# Altium integrated library BM70BLES1FC2-0B05BA.IntLib: 1 symbol
Pins are listed as number, name and electrical type; pins without a type are passive.

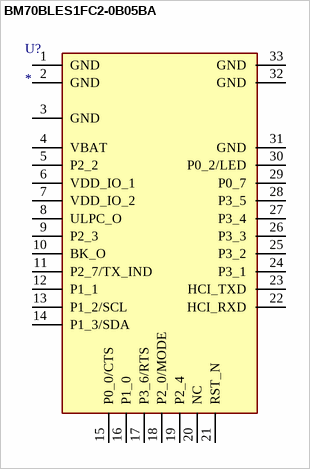
[diagram p0: symbol BM70BLES1FC2-0B05BA]

## BM70BLES1FC2-0B05BA
designator U?
footprint BM70BLES1FC2-0B05BA
pins: 1 GND, 2 GND, 3 GND, 4 VBAT, 5 P2_2, 6 VDD_IO_1, 7 VDD_IO_2, 8 ULPC_O, 9 P2_3, 10 BK_O, 11 P2_7/TX_IND, 12 P1_1, 13 P1_2/SCL, 14 P1_3/SDA, 15 P0_0/CTS, 16 P1_0, 17 P3_6/RTS, 18 P2_0/MODE, 19 P2_4, 20 NC, 21 RST_N, 22 HCI_RXD, 23 HCI_TXD, 24 P3_1, 25 P3_2, 26 P3_3, 27 P3_4, 28 P3_5, 29 P0_7, 30 P0_2/LED, 31 GND, 32 GND, 33 GND